# Altium schematic symbol library SRP1038AA-R36M.SchLib: 1 symbol
Pins are listed as number, name and electrical type; pins without a type are passive.

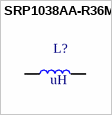
[diagram p0: symbol SRP1038AA-R36M]

## SRP1038AA-R36M
designator L?, comment uH
Shielded Power Inductor, ...uH; Manufacturer_Name: Bourns; Manufacturer_Part_Number: SRP1038AA-R36M; Geometry.Height: 4mm; Mouser Part Number: 652-SRP1038AA-R36M; Mouser Price/Stock: https://www.mouser.co.uk/ProductDetail/Bourns/SRP1038AA-R36M?qs=CiayqK2gdcJABH4%252B3%252B0pzQ%3D%3D; Datasheet Link: https://www.bourns.com/docs/product-datasheets/srp1038aa.pdf?sfvrsn=2d1249f6_4
footprint INDPM110100X400N
pins: 1, 2